# Altium schematic symbol library kmilo17pet-LT_OpAmp_LT1000.SchLib: 2280 symbols (part 11 of 79)
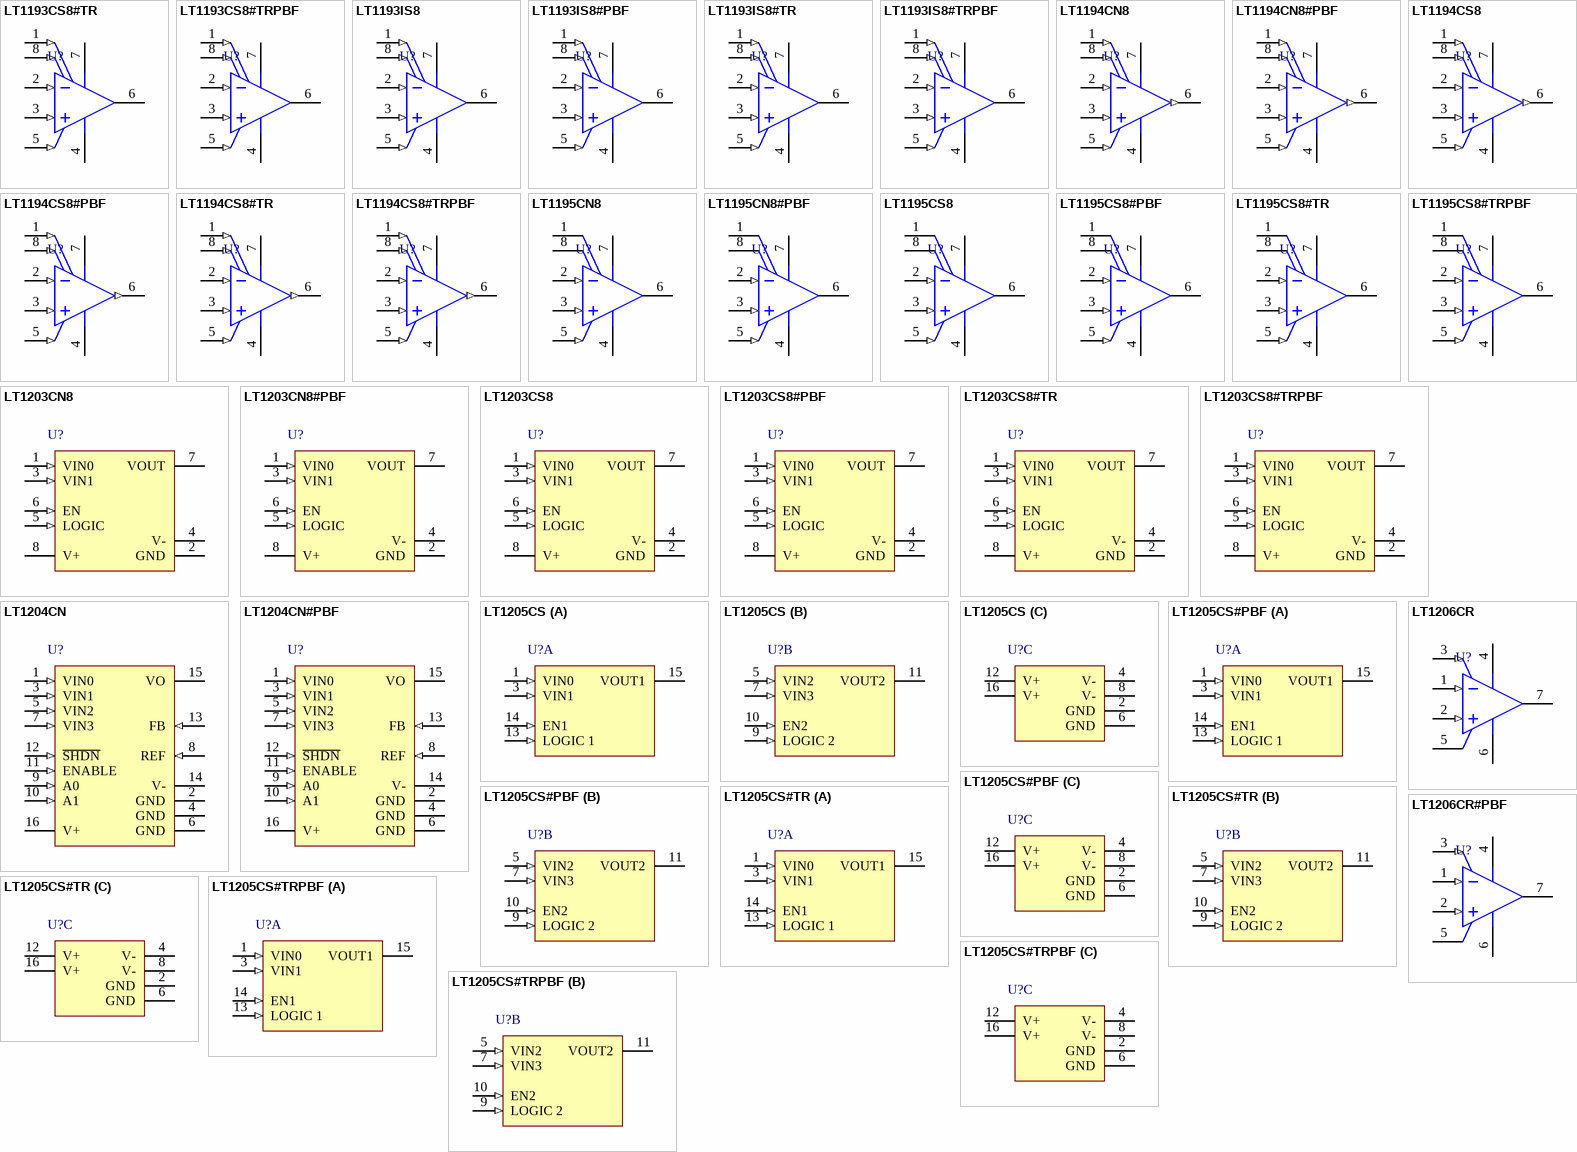
[diagram p115: symbols LT1193CS8#TR to LT1206CR#PBF]

## LT1195CN8
designator U?
Single Channel, Low Power, High Speed Operational Amplifier, 50 MHz Typical GBW, 165 V/us Typical SR, 4 to 18 V, 8-Pin DIP (N8-8), Commercial; Linear Technology Part Number: LT1195; Manufacturer: Linear Technology; PartNumber: LT1195CN8; Channels (#): 1; GBW (MHz) Typical: 50; Is (mA) Typical: 12; SR (V/us) Typical: 165; Vos (mV) Typical: 3; Vs Max (V): 18; Vs Min (V): 4; DatasheetVersion: Rev. A; PackageVersion: Rev I; PackageReference: LT-N8-8; PackageDescription: 8-Lead PDIP, Body 10.16 x 6.48 mm, Pitch 2.54 mm; Supplier 1: Digi-Key; Supplier Part Number 1: LT1195CN8-ND; Type: VFB; Mounting Technology: Surface Mount; ComponentLink1Description: Manufacturer URL; ComponentLink1URL: http://www.linear.com/; ComponentLink2Description: Datasheet; ComponentLink2URL: http://cds.linear.com/docs/en/datasheet/1195fa.pdf; ComponentLink3Description: Package Specification; ComponentLink3URL: http://cds.linear.com/docs/en/packaging/05081510_I_N8.pdf
footprint LT-N8-8 (DIP, 8-Leads, Body 10.16x6.48mm, Pitch 2.54mm)
pins: 1 BAL, 2 -IN (in), 3 +IN (in), 4 V- (power), 5 S/D (in), 6 OUT (hiz), 7 V+ (power), 8 BAL

## LT1195CN8#PBF
designator U?
Single Channel, Low Power, High Speed Operational Amplifier, 50 MHz Typical GBW, 165 V/us Typical SR, 4 to 18 V, 8-Pin DIP (N8-8), Commercial, Pb-Free; Linear Technology Part Number: LT1195; Manufacturer: Linear Technology; PartNumber: LT1195CN8#PBF; Channels (#): 1; GBW (MHz) Typical: 50; Is (mA) Typical: 12; SR (V/us) Typical: 165; Vos (mV) Typical: 3; Vs Max (V): 18; Vs Min (V): 4; DatasheetVersion: Rev. A; PackageVersion: Rev I; PackageReference: LT-N8-8; PackageDescription: 8-Lead PDIP, Body 10.16 x 6.48 mm, Pitch 2.54 mm; Supplier 1: Digi-Key; Supplier Part Number 1: LT1195CN8#PBF-ND; RoHS: Pb-Free; Type: VFB; Mounting Technology: Through Hole; ComponentLink1Description: Manufacturer URL; ComponentLink1URL: http://www.linear.com/; ComponentLink2Description: Datasheet; ComponentLink2URL: http://cds.linear.com/docs/en/datasheet/1195fa.pdf; ComponentLink3Description: Package Specification; ComponentLink3URL: http://cds.linear.com/docs/en/packaging/05081510_I_N8.pdf
footprint LT-N8-8 (DIP, 8-Leads, Body 10.16x6.48mm, Pitch 2.54mm)
pins: 1 BAL, 2 -IN (in), 3 +IN (in), 4 V- (power), 5 S/D (in), 6 OUT (hiz), 7 V+ (power), 8 BAL

## LT1195CS8
designator U?
Single Channel, Low Power, High Speed Operational Amplifier, 50 MHz Typical GBW, 165 V/us Typical SR, 4 to 18 V, 8-Pin SOIC (S8-8), Commercial; Linear Technology Part Number: LT1195; Manufacturer: Linear Technology; PartNumber: LT1195CS8; Channels (#): 1; GBW (MHz) Typical: 50; Is (mA) Typical: 12; SR (V/us) Typical: 165; Vos (mV) Typical: 3; Vs Max (V): 18; Vs Min (V): 4; DatasheetVersion: Rev. A; PackageVersion: Rev G; PackageReference: LT-S8-8; PackageDescription: 8-Pin Plastic Small Outline, Body 4.9 x 3.9 mm, Pitch 1.27 mm; Supplier 1: Digi-Key; Supplier Part Number 1: LT1195CS8-ND; Type: VFB; Mounting Technology: Surface Mount; ComponentLink1Description: Manufacturer URL; ComponentLink1URL: http://www.linear.com/; ComponentLink2Description: Datasheet; ComponentLink2URL: http://cds.linear.com/docs/en/datasheet/1195fa.pdf; ComponentLink3Description: Package Specification; ComponentLink3URL: http://cds.linear.com/docs/en/packaging/05081610_G_SO8.pdf
footprint LT-S8-8_N (SOIC, 8-Leads, Body 4.9x3.9mm, Pitch 1.27mm, IPC Medium Density)
footprint LT-S8-8_L (SOIC, 8-Leads, Body 4.9x3.9mm, Pitch 1.27mm, IPC High Density)
footprint LT-S8-8_M (SOIC, 8-Leads, Body 4.9x3.9mm, Pitch 1.27mm, IPC Low Density)
pins: 1 BAL, 2 -IN (in), 3 +IN (in), 4 V- (power), 5 S/D (in), 6 OUT (hiz), 7 V+ (power), 8 BAL

## LT1195CS8#PBF
designator U?
Single Channel, Low Power, High Speed Operational Amplifier, 50 MHz Typical GBW, 165 V/us Typical SR, 4 to 18 V, 8-Pin SOIC (S8-8), Commercial, Pb-Free; Linear Technology Part Number: LT1195; Manufacturer: Linear Technology; PartNumber: LT1195CS8#PBF; Channels (#): 1; GBW (MHz) Typical: 50; Is (mA) Typical: 12; SR (V/us) Typical: 165; Vos (mV) Typical: 3; Vs Max (V): 18; Vs Min (V): 4; DatasheetVersion: Rev. A; PackageVersion: Rev G; PackageReference: LT-S8-8; PackageDescription: 8-Pin Plastic Small Outline, Body 4.9 x 3.9 mm, Pitch 1.27 mm; Supplier 1: Digi-Key; Supplier Part Number 1: LT1195CS8#PBF-ND; Supplier 2: Farnell; Supplier Part Number 2: 1330598; Supplier 3: Newark; Supplier Part Number 3: 57M2648; RoHS: Pb-Free; Type: VFB; Mounting Technology: Surface Mount; ComponentLink1Description: Manufacturer URL; ComponentLink1URL: http://www.linear.com/; ComponentLink2Description: Datasheet; ComponentLink2URL: http://cds.linear.com/docs/en/datasheet/1195fa.pdf; ComponentLink3Description: Package Specification; ComponentLink3URL: http://cds.linear.com/docs/en/packaging/05081610_G_SO8.pdf
footprint LT-S8-8_N (SOIC, 8-Leads, Body 4.9x3.9mm, Pitch 1.27mm, IPC Medium Density)
footprint LT-S8-8_L (SOIC, 8-Leads, Body 4.9x3.9mm, Pitch 1.27mm, IPC High Density)
footprint LT-S8-8_M (SOIC, 8-Leads, Body 4.9x3.9mm, Pitch 1.27mm, IPC Low Density)
pins: 1 BAL, 2 -IN (in), 3 +IN (in), 4 V- (power), 5 S/D (in), 6 OUT (hiz), 7 V+ (power), 8 BAL

## LT1195CS8#TR
designator U?
Single Channel, Low Power, High Speed Operational Amplifier, 50 MHz Typical GBW, 165 V/us Typical SR, 4 to 18 V, 8-Pin SOIC (S8-8), Commercial, Reel; Linear Technology Part Number: LT1195; Manufacturer: Linear Technology; PartNumber: LT1195CS8#TR; Channels (#): 1; GBW (MHz) Typical: 50; Is (mA) Typical: 12; SR (V/us) Typical: 165; Vos (mV) Typical: 3; Vs Max (V): 18; Vs Min (V): 4; DatasheetVersion: Rev. A; PackageVersion: Rev G; PackageReference: LT-S8-8; PackageDescription: 8-Pin Plastic Small Outline, Body 4.9 x 3.9 mm, Pitch 1.27 mm; Supplier 1: Digi-Key; Supplier Part Number 1: LT1195CS8#TR-ND; Packing: Reel; Type: VFB; Mounting Technology: Surface Mount; ComponentLink1Description: Manufacturer URL; ComponentLink1URL: http://www.linear.com/; ComponentLink2Description: Datasheet; ComponentLink2URL: http://cds.linear.com/docs/en/datasheet/1195fa.pdf; ComponentLink3Description: Package Specification; ComponentLink3URL: http://cds.linear.com/docs/en/packaging/05081610_G_SO8.pdf
footprint LT-S8-8_N (SOIC, 8-Leads, Body 4.9x3.9mm, Pitch 1.27mm, IPC Medium Density)
footprint LT-S8-8_L (SOIC, 8-Leads, Body 4.9x3.9mm, Pitch 1.27mm, IPC High Density)
footprint LT-S8-8_M (SOIC, 8-Leads, Body 4.9x3.9mm, Pitch 1.27mm, IPC Low Density)
pins: 1 BAL, 2 -IN (in), 3 +IN (in), 4 V- (power), 5 S/D (in), 6 OUT (hiz), 7 V+ (power), 8 BAL

## LT1195CS8#TRPBF
designator U?
Single Channel, Low Power, High Speed Operational Amplifier, 50 MHz Typical GBW, 165 V/us Typical SR, 4 to 18 V, 8-Pin SOIC (S8-8), Commercial, Pb-Free, Reel; Linear Technology Part Number: LT1195; Manufacturer: Linear Technology; PartNumber: LT1195CS8#TRPBF; Channels (#): 1; GBW (MHz) Typical: 50; Is (mA) Typical: 12; SR (V/us) Typical: 165; Vos (mV) Typical: 3; Vs Max (V): 18; Vs Min (V): 4; DatasheetVersion: Rev. A; PackageVersion: Rev G; PackageReference: LT-S8-8; PackageDescription: 8-Pin Plastic Small Outline, Body 4.9 x 3.9 mm, Pitch 1.27 mm; Supplier 1: Digi-Key; Supplier Part Number 1: LT1195CS8#TRPBF-ND; Supplier 2: Newark; Supplier Part Number 2: 57M2650; Packing: Reel; RoHS: Pb-Free; Type: VFB; Mounting Technology: Surface Mount; ComponentLink1Description: Manufacturer URL; ComponentLink1URL: http://www.linear.com/; ComponentLink2Description: Datasheet; ComponentLink2URL: http://cds.linear.com/docs/en/datasheet/1195fa.pdf; ComponentLink3Description: Package Specification; ComponentLink3URL: http://cds.linear.com/docs/en/packaging/05081610_G_SO8.pdf
footprint LT-S8-8_N (SOIC, 8-Leads, Body 4.9x3.9mm, Pitch 1.27mm, IPC Medium Density)
footprint LT-S8-8_L (SOIC, 8-Leads, Body 4.9x3.9mm, Pitch 1.27mm, IPC High Density)
footprint LT-S8-8_M (SOIC, 8-Leads, Body 4.9x3.9mm, Pitch 1.27mm, IPC Low Density)
pins: 1 BAL, 2 -IN (in), 3 +IN (in), 4 V- (power), 5 S/D (in), 6 OUT (hiz), 7 V+ (power), 8 BAL

## LT1203CN8
designator U?
Single Channel, Buffered 2:1 MUX, 25ns Switch Time, 150 MHz Typical GBW, 300 V/us Typical SR, 9 to 36 V, 8-Pin DIP (N8-8), Commercial; Linear Technology Part Number: LT1203; Manufacturer: Linear Technology; PartNumber: LT1203CN8; Channels (#): 1; GBW (MHz) Typical: 150; Is (mA) Typical: 10; SR (V/us) Typical: 300; Vs Max (V): 36; Vs Min (V): 9; PackageVersion: Rev I; PackageReference: LT-N8-8; PackageDescription: 8-Lead PDIP, Body 10.16 x 6.48 mm, Pitch 2.54 mm; Type: VIDEO; Vos (mV) Typical: 10; Mounting Technology: Surface Mount; ComponentLink1Description: Manufacturer URL; ComponentLink1URL: http://www.linear.com/; ComponentLink2Description: Datasheet; ComponentLink2URL: http://cds.linear.com/docs/en/datasheet/lt1203.pdf; ComponentLink3Description: Package Specification; ComponentLink3URL: http://cds.linear.com/docs/en/packaging/05081510_I_N8.pdf
footprint LT-N8-8 (DIP, 8-Leads, Body 10.16x6.48mm, Pitch 2.54mm)
pins: 1 VIN0 (in), 2 GND (power), 3 VIN1 (in), 4 V- (power), 5 LOGIC (in), 6 EN (in), 7 VOUT (hiz), 8 V+ (power)

## LT1203CN8#PBF
designator U?
Single Channel, Buffered 2:1 MUX, 25ns Switch Time, 150 MHz Typical GBW, 300 V/us Typical SR, 9 to 36 V, 8-Pin DIP (N8-8), Commercial, Pb-Free; Linear Technology Part Number: LT1203; Manufacturer: Linear Technology; PartNumber: LT1203CN8#PBF; Channels (#): 1; GBW (MHz) Typical: 150; Is (mA) Typical: 10; SR (V/us) Typical: 300; Vs Max (V): 36; Vs Min (V): 9; PackageVersion: Rev I; PackageReference: LT-N8-8; PackageDescription: 8-Lead PDIP, Body 10.16 x 6.48 mm, Pitch 2.54 mm; Supplier 1: Digi-Key; Supplier Part Number 1: LT1203CN8#PBF-ND; RoHS: Pb-Free; Type: VIDEO; Vos (mV) Typical: 10; Mounting Technology: Through Hole; ComponentLink1Description: Manufacturer URL; ComponentLink1URL: http://www.linear.com/; ComponentLink2Description: Datasheet; ComponentLink2URL: http://cds.linear.com/docs/en/datasheet/lt1203.pdf; ComponentLink3Description: Package Specification; ComponentLink3URL: http://cds.linear.com/docs/en/packaging/05081510_I_N8.pdf
footprint LT-N8-8 (DIP, 8-Leads, Body 10.16x6.48mm, Pitch 2.54mm)
pins: 1 VIN0 (in), 2 GND (power), 3 VIN1 (in), 4 V- (power), 5 LOGIC (in), 6 EN (in), 7 VOUT (hiz), 8 V+ (power)

## LT1203CS8
designator U?
Single Channel, Buffered 2:1 MUX, 25ns Switch Time, 150 MHz Typical GBW, 300 V/us Typical SR, 9 to 36 V, 8-Pin SOIC (S8-8), Commercial; Linear Technology Part Number: LT1203; Manufacturer: Linear Technology; PartNumber: LT1203CS8; Channels (#): 1; GBW (MHz) Typical: 150; Is (mA) Typical: 10; SR (V/us) Typical: 300; Vs Max (V): 36; Vs Min (V): 9; PackageVersion: Rev G; PackageReference: LT-S8-8; PackageDescription: 8-Pin Plastic Small Outline, Body 4.9 x 3.9 mm, Pitch 1.27 mm; Supplier 1: Newark; Supplier Part Number 1: 57M2653; Type: VIDEO; Vos (mV) Typical: 10; Mounting Technology: Surface Mount; ComponentLink1Description: Manufacturer URL; ComponentLink1URL: http://www.linear.com/; ComponentLink2Description: Datasheet; ComponentLink2URL: http://cds.linear.com/docs/en/datasheet/lt1203.pdf; ComponentLink3Description: Package Specification; ComponentLink3URL: http://cds.linear.com/docs/en/packaging/05081610_G_SO8.pdf
footprint LT-S8-8_N (SOIC, 8-Leads, Body 4.9x3.9mm, Pitch 1.27mm, IPC Medium Density)
footprint LT-S8-8_L (SOIC, 8-Leads, Body 4.9x3.9mm, Pitch 1.27mm, IPC High Density)
footprint LT-S8-8_M (SOIC, 8-Leads, Body 4.9x3.9mm, Pitch 1.27mm, IPC Low Density)
pins: 1 VIN0 (in), 2 GND (power), 3 VIN1 (in), 4 V- (power), 5 LOGIC (in), 6 EN (in), 7 VOUT (hiz), 8 V+ (power)

## LT1203CS8#PBF
designator U?
Single Channel, Buffered 2:1 MUX, 25ns Switch Time, 150 MHz Typical GBW, 300 V/us Typical SR, 9 to 36 V, 8-Pin SOIC (S8-8), Commercial, Pb-Free; Linear Technology Part Number: LT1203; Manufacturer: Linear Technology; PartNumber: LT1203CS8#PBF; Channels (#): 1; GBW (MHz) Typical: 150; Is (mA) Typical: 10; SR (V/us) Typical: 300; Vs Max (V): 36; Vs Min (V): 9; PackageVersion: Rev G; PackageReference: LT-S8-8; PackageDescription: 8-Pin Plastic Small Outline, Body 4.9 x 3.9 mm, Pitch 1.27 mm; Supplier 1: Digi-Key; Supplier Part Number 1: LT1203CS8#PBF-ND; Supplier 2: Newark; Supplier Part Number 2: 57M2654; RoHS: Pb-Free; Type: VIDEO; Vos (mV) Typical: 10; Mounting Technology: Surface Mount; ComponentLink1Description: Manufacturer URL; ComponentLink1URL: http://www.linear.com/; ComponentLink2Description: Datasheet; ComponentLink2URL: http://cds.linear.com/docs/en/datasheet/lt1203.pdf; ComponentLink3Description: Package Specification; ComponentLink3URL: http://cds.linear.com/docs/en/packaging/05081610_G_SO8.pdf
footprint LT-S8-8_N (SOIC, 8-Leads, Body 4.9x3.9mm, Pitch 1.27mm, IPC Medium Density)
footprint LT-S8-8_L (SOIC, 8-Leads, Body 4.9x3.9mm, Pitch 1.27mm, IPC High Density)
footprint LT-S8-8_M (SOIC, 8-Leads, Body 4.9x3.9mm, Pitch 1.27mm, IPC Low Density)
pins: 1 VIN0 (in), 2 GND (power), 3 VIN1 (in), 4 V- (power), 5 LOGIC (in), 6 EN (in), 7 VOUT (hiz), 8 V+ (power)

## LT1203CS8#TR
designator U?
Single Channel, Buffered 2:1 MUX, 25ns Switch Time, 150 MHz Typical GBW, 300 V/us Typical SR, 9 to 36 V, 8-Pin SOIC (S8-8), Commercial, Reel; Linear Technology Part Number: LT1203; Manufacturer: Linear Technology; PartNumber: LT1203CS8#TR; Channels (#): 1; GBW (MHz) Typical: 150; Is (mA) Typical: 10; SR (V/us) Typical: 300; Vs Max (V): 36; Vs Min (V): 9; PackageVersion: Rev G; PackageReference: LT-S8-8; PackageDescription: 8-Pin Plastic Small Outline, Body 4.9 x 3.9 mm, Pitch 1.27 mm; Supplier 1: Digi-Key; Supplier Part Number 1: LT1203CS8#TR-ND; Packing: Reel; Type: VIDEO; Vos (mV) Typical: 10; Mounting Technology: Surface Mount; ComponentLink1Description: Manufacturer URL; ComponentLink1URL: http://www.linear.com/; ComponentLink2Description: Datasheet; ComponentLink2URL: http://cds.linear.com/docs/en/datasheet/lt1203.pdf; ComponentLink3Description: Package Specification; ComponentLink3URL: http://cds.linear.com/docs/en/packaging/05081610_G_SO8.pdf
footprint LT-S8-8_N (SOIC, 8-Leads, Body 4.9x3.9mm, Pitch 1.27mm, IPC Medium Density)
footprint LT-S8-8_L (SOIC, 8-Leads, Body 4.9x3.9mm, Pitch 1.27mm, IPC High Density)
footprint LT-S8-8_M (SOIC, 8-Leads, Body 4.9x3.9mm, Pitch 1.27mm, IPC Low Density)
pins: 1 VIN0 (in), 2 GND (power), 3 VIN1 (in), 4 V- (power), 5 LOGIC (in), 6 EN (in), 7 VOUT (hiz), 8 V+ (power)

## LT1203CS8#TRPBF
designator U?
Single Channel, Buffered 2:1 MUX, 25ns Switch Time, 150 MHz Typical GBW, 300 V/us Typical SR, 9 to 36 V, 8-Pin SOIC (S8-8), Commercial, Pb-Free, Reel; Linear Technology Part Number: LT1203; Manufacturer: Linear Technology; PartNumber: LT1203CS8#TRPBF; Channels (#): 1; GBW (MHz) Typical: 150; Is (mA) Typical: 10; SR (V/us) Typical: 300; Vs Max (V): 36; Vs Min (V): 9; PackageVersion: Rev G; PackageReference: LT-S8-8; PackageDescription: 8-Pin Plastic Small Outline, Body 4.9 x 3.9 mm, Pitch 1.27 mm; Supplier 1: Digi-Key; Supplier Part Number 1: LT1203CS8#TRPBF-ND; Supplier 2: Newark; Supplier Part Number 2: 57M2656; Packing: Reel; RoHS: Pb-Free; Type: VIDEO; Vos (mV) Typical: 10; Mounting Technology: Surface Mount; ComponentLink1Description: Manufacturer URL; ComponentLink1URL: http://www.linear.com/; ComponentLink2Description: Datasheet; ComponentLink2URL: http://cds.linear.com/docs/en/datasheet/lt1203.pdf; ComponentLink3Description: Package Specification; ComponentLink3URL: http://cds.linear.com/docs/en/packaging/05081610_G_SO8.pdf
footprint LT-S8-8_N (SOIC, 8-Leads, Body 4.9x3.9mm, Pitch 1.27mm, IPC Medium Density)
footprint LT-S8-8_L (SOIC, 8-Leads, Body 4.9x3.9mm, Pitch 1.27mm, IPC High Density)
footprint LT-S8-8_M (SOIC, 8-Leads, Body 4.9x3.9mm, Pitch 1.27mm, IPC Low Density)
pins: 1 VIN0 (in), 2 GND (power), 3 VIN1 (in), 4 V- (power), 5 LOGIC (in), 6 EN (in), 7 VOUT (hiz), 8 V+ (power)

## LT1204CN
designator U?
Single Channel, 4:1 MUX with Current Feedback Amplifier, 95 MHz Typical GBW, 1000 V/us Typical SR, 9 to 36 V, 16-Pin DIP (N-16), Commercial; Linear Technology Part Number: LT1204; Manufacturer: Linear Technology; PartNumber: LT1204CN; Channels (#): 1; GBW (MHz) Typical: 95; Is (mA) Typical: 19; SR (V/us) Typical: 1000; Vos (mV) Typical: 5; Vs Max (V): 36; Vs Min (V): 9; DatasheetVersion: Rev. A; PackageVersion: Rev I; PackageReference: LT-N-16; PackageDescription: 16-Lead PDIP, Body 19.56 x 6.48 mm, Pitch 2.54 mm; Supplier 1: Digi-Key; Supplier Part Number 1: LT1204CN-ND; Type: VIDEO; Mounting Technology: Surface Mount; ComponentLink1Description: Manufacturer URL; ComponentLink1URL: http://www.linear.com/; ComponentLink2Description: Datasheet; ComponentLink2URL: http://cds.linear.com/docs/en/datasheet/1204fas.pdf; ComponentLink3Description: Package Specification; ComponentLink3URL: http://cds.linear.com/docs/en/packaging/05081510_I_N16.pdf
footprint LT-N-16 (DIP, 16-Leads, Body 19.56x6.48mm, Pitch 2.54mm)
pins: 1 VIN0 (in), 2 GND (power), 3 VIN1 (in), 4 GND (power), 5 VIN2 (in), 6 GND (power), 7 VIN3 (in), 8 REF (in), 9 A0 (in), 10 A1 (in), 11 ENABLE (in), 12 ~{SHDN} (in), 13 FB (in), 14 V- (power), 15 VO (hiz), 16 V+ (power)

## LT1204CN#PBF
designator U?
Single Channel, 4:1 MUX with Current Feedback Amplifier, 95 MHz Typical GBW, 1000 V/us Typical SR, 9 to 36 V, 16-Pin DIP (N-16), Commercial, Pb-Free; Linear Technology Part Number: LT1204; Manufacturer: Linear Technology; PartNumber: LT1204CN#PBF; Channels (#): 1; GBW (MHz) Typical: 95; Is (mA) Typical: 19; SR (V/us) Typical: 1000; Vos (mV) Typical: 5; Vs Max (V): 36; Vs Min (V): 9; DatasheetVersion: Rev. A; PackageVersion: Rev I; PackageReference: LT-N-16; PackageDescription: 16-Lead PDIP, Body 19.56 x 6.48 mm, Pitch 2.54 mm; Supplier 1: Digi-Key; Supplier Part Number 1: LT1204CN#PBF-ND; RoHS: Pb-Free; Type: VIDEO; Mounting Technology: Through Hole; ComponentLink1Description: Manufacturer URL; ComponentLink1URL: http://www.linear.com/; ComponentLink2Description: Datasheet; ComponentLink2URL: http://cds.linear.com/docs/en/datasheet/1204fas.pdf; ComponentLink3Description: Package Specification; ComponentLink3URL: http://cds.linear.com/docs/en/packaging/05081510_I_N16.pdf
footprint LT-N-16 (DIP, 16-Leads, Body 19.56x6.48mm, Pitch 2.54mm)
pins: 1 VIN0 (in), 2 GND (power), 3 VIN1 (in), 4 GND (power), 5 VIN2 (in), 6 GND (power), 7 VIN3 (in), 8 REF (in), 9 A0 (in), 10 A1 (in), 11 ENABLE (in), 12 ~{SHDN} (in), 13 FB (in), 14 V- (power), 15 VO (hiz), 16 V+ (power)

## LT1205CS
designator U?
Dual Channel, Buffered 2:1 MUX, 25ns Switch Time, 150 MHz Typical GBW, 300 V/us Typical SR, 9 to 36 V, 16-Pin SOP (S-16), Commercial; Linear Technology Part Number: LT1205; Manufacturer: Linear Technology; PartNumber: LT1205CS; Channels (#): 2; GBW (MHz) Typical: 150; Is (mA) Typical: 10; SR (V/us) Typical: 300; Vs Max (V): 36; Vs Min (V): 9; PackageVersion: Rev G; PackageReference: LT-S-16; PackageDescription: 16-Lead Plastic Small Outline, Body 9.9 x 3.9 mm, Pitch 1.27 mm; Type: VIDEO; Vos (mV) Typical: 10; Mounting Technology: Surface Mount; ComponentLink1Description: Manufacturer URL; ComponentLink1URL: http://www.linear.com/; ComponentLink2Description: Datasheet; ComponentLink2URL: http://cds.linear.com/docs/en/datasheet/lt1203.pdf; ComponentLink3Description: Package Specification; ComponentLink3URL: http://cds.linear.com/docs/en/packaging/S16%2005-08-1610%20Rev%20G.pdf
footprint LT-S-16_N (SOP, 16-Leads, Body 9.9x3.9mm, Pitch 1.27mm, IPC Medium Density)
footprint LT-S-16_L (SOP, 16-Leads, Body 9.9x3.9mm, Pitch 1.27mm, IPC High Density)
footprint LT-S-16_M (SOP, 16-Leads, Body 9.9x3.9mm, Pitch 1.27mm, IPC Low Density)
part A pins: 1 VIN0 (in), 3 VIN1 (in), 13 LOGIC 1 (in), 14 EN1 (in), 15 VOUT1 (hiz)
part B pins: 5 VIN2 (in), 7 VIN3 (in), 9 LOGIC 2 (in), 10 EN2 (in), 11 VOUT2 (hiz)
part C pins: 2 GND (power), 4 V- (power), 6 GND (power), 8 V- (power), 12 V+ (power), 16 V+ (power)

## LT1205CS#PBF
designator U?
Dual Channel, Buffered 2:1 MUX, 25ns Switch Time, 150 MHz Typical GBW, 300 V/us Typical SR, 9 to 36 V, 16-Pin SOP (S-16), Commercial, Pb-Free; Linear Technology Part Number: LT1205; Manufacturer: Linear Technology; PartNumber: LT1205CS#PBF; Channels (#): 2; GBW (MHz) Typical: 150; Is (mA) Typical: 10; SR (V/us) Typical: 300; Vs Max (V): 36; Vs Min (V): 9; PackageVersion: Rev G; PackageReference: LT-S-16; PackageDescription: 16-Lead Plastic Small Outline, Body 9.9 x 3.9 mm, Pitch 1.27 mm; Supplier 1: Digi-Key; Supplier Part Number 1: LT1205CS#PBF-ND; Supplier 2: Farnell; Supplier Part Number 2: 1330601; Supplier 3: Newark; Supplier Part Number 3: 57M2664; RoHS: Pb-Free; Type: VIDEO; Vos (mV) Typical: 10; Mounting Technology: Surface Mount; ComponentLink1Description: Manufacturer URL; ComponentLink1URL: http://www.linear.com/; ComponentLink2Description: Datasheet; ComponentLink2URL: http://cds.linear.com/docs/en/datasheet/lt1203.pdf; ComponentLink3Description: Package Specification; ComponentLink3URL: http://cds.linear.com/docs/en/packaging/S16%2005-08-1610%20Rev%20G.pdf
footprint LT-S-16_N (SOP, 16-Leads, Body 9.9x3.9mm, Pitch 1.27mm, IPC Medium Density)
footprint LT-S-16_L (SOP, 16-Leads, Body 9.9x3.9mm, Pitch 1.27mm, IPC High Density)
footprint LT-S-16_M (SOP, 16-Leads, Body 9.9x3.9mm, Pitch 1.27mm, IPC Low Density)
part A pins: 1 VIN0 (in), 3 VIN1 (in), 13 LOGIC 1 (in), 14 EN1 (in), 15 VOUT1 (hiz)
part B pins: 5 VIN2 (in), 7 VIN3 (in), 9 LOGIC 2 (in), 10 EN2 (in), 11 VOUT2 (hiz)
part C pins: 2 GND (power), 4 V- (power), 6 GND (power), 8 V- (power), 12 V+ (power), 16 V+ (power)

## LT1205CS#TR
designator U?
Dual Channel, Buffered 2:1 MUX, 25ns Switch Time, 150 MHz Typical GBW, 300 V/us Typical SR, 9 to 36 V, 16-Pin SOP (S-16), Commercial, Reel; Linear Technology Part Number: LT1205; Manufacturer: Linear Technology; PartNumber: LT1205CS#TR; Channels (#): 2; GBW (MHz) Typical: 150; Is (mA) Typical: 10; SR (V/us) Typical: 300; Vs Max (V): 36; Vs Min (V): 9; PackageVersion: Rev G; PackageReference: LT-S-16; PackageDescription: 16-Lead Plastic Small Outline, Body 9.9 x 3.9 mm, Pitch 1.27 mm; Supplier 1: Digi-Key; Supplier Part Number 1: LT1205CS#TR-ND; Packing: Reel; Type: VIDEO; Vos (mV) Typical: 10; Mounting Technology: Surface Mount; ComponentLink1Description: Manufacturer URL; ComponentLink1URL: http://www.linear.com/; ComponentLink2Description: Datasheet; ComponentLink2URL: http://cds.linear.com/docs/en/datasheet/lt1203.pdf; ComponentLink3Description: Package Specification; ComponentLink3URL: http://cds.linear.com/docs/en/packaging/S16%2005-08-1610%20Rev%20G.pdf
footprint LT-S-16_N (SOP, 16-Leads, Body 9.9x3.9mm, Pitch 1.27mm, IPC Medium Density)
footprint LT-S-16_L (SOP, 16-Leads, Body 9.9x3.9mm, Pitch 1.27mm, IPC High Density)
footprint LT-S-16_M (SOP, 16-Leads, Body 9.9x3.9mm, Pitch 1.27mm, IPC Low Density)
part A pins: 1 VIN0 (in), 3 VIN1 (in), 13 LOGIC 1 (in), 14 EN1 (in), 15 VOUT1 (hiz)
part B pins: 5 VIN2 (in), 7 VIN3 (in), 9 LOGIC 2 (in), 10 EN2 (in), 11 VOUT2 (hiz)
part C pins: 2 GND (power), 4 V- (power), 6 GND (power), 8 V- (power), 12 V+ (power), 16 V+ (power)

## LT1205CS#TRPBF
designator U?
Dual Channel, Buffered 2:1 MUX, 25ns Switch Time, 150 MHz Typical GBW, 300 V/us Typical SR, 9 to 36 V, 16-Pin SOP (S-16), Commercial, Pb-Free, Reel; Linear Technology Part Number: LT1205; Manufacturer: Linear Technology; PartNumber: LT1205CS#TRPBF; Channels (#): 2; GBW (MHz) Typical: 150; Is (mA) Typical: 10; SR (V/us) Typical: 300; Vs Max (V): 36; Vs Min (V): 9; PackageVersion: Rev G; PackageReference: LT-S-16; PackageDescription: 16-Lead Plastic Small Outline, Body 9.9 x 3.9 mm, Pitch 1.27 mm; Supplier 1: Digi-Key; Supplier Part Number 1: LT1205CS#TRPBF-ND; Packing: Reel; RoHS: Pb-Free; Type: VIDEO; Vos (mV) Typical: 10; Mounting Technology: Surface Mount; ComponentLink1Description: Manufacturer URL; ComponentLink1URL: http://www.linear.com/; ComponentLink2Description: Datasheet; ComponentLink2URL: http://cds.linear.com/docs/en/datasheet/lt1203.pdf; ComponentLink3Description: Package Specification; ComponentLink3URL: http://cds.linear.com/docs/en/packaging/S16%2005-08-1610%20Rev%20G.pdf
footprint LT-S-16_N (SOP, 16-Leads, Body 9.9x3.9mm, Pitch 1.27mm, IPC Medium Density)
footprint LT-S-16_L (SOP, 16-Leads, Body 9.9x3.9mm, Pitch 1.27mm, IPC High Density)
footprint LT-S-16_M (SOP, 16-Leads, Body 9.9x3.9mm, Pitch 1.27mm, IPC Low Density)
part A pins: 1 VIN0 (in), 3 VIN1 (in), 13 LOGIC 1 (in), 14 EN1 (in), 15 VOUT1 (hiz)
part B pins: 5 VIN2 (in), 7 VIN3 (in), 9 LOGIC 2 (in), 10 EN2 (in), 11 VOUT2 (hiz)
part C pins: 2 GND (power), 4 V- (power), 6 GND (power), 8 V- (power), 12 V+ (power), 16 V+ (power)

## LT1206CR
designator U?
Single Channel, Adjustable Supply Current Operational Amplifier, 66 MHz Typical GBW, 900 V/us Typical SR, 10 to 36 V, 7-Pin DPAK (R-7), Commercial; Linear Technology Part Number: LT1206; Manufacturer: Linear Technology; PartNumber: LT1206CR; Channels (#): 1; GBW (MHz) Typical: 66; Is (mA) Typical: 20; SR (V/us) Typical: 900; Vos (mV) Typical: 3; Vs Max (V): 36; Vs Min (V): 10; DatasheetVersion: Rev. B; PackageVersion: Rev F; PackageReference: LT-R-7; PackageDescription: 7-Lead Plastic DD Pak, Pitch 1.27 mm; Supplier 1: Digi-Key; Supplier Part Number 1: LT1206CR-ND; Supplier 2: Newark; Supplier Part Number 2: 57M2669; Type: CFA; Mounting Technology: Surface Mount; ComponentLink1Description: Manufacturer URL; ComponentLink1URL: http://www.linear.com/; ComponentLink2Description: Datasheet; ComponentLink2URL: http://cds.linear.com/docs/en/datasheet/1206fb.pdf; ComponentLink3Description: Package Specification; ComponentLink3URL: http://cds.linear.com/docs/en/packaging/05081462_F_R.pdf
footprint LT-R-7_N (DPAK, 7-Leads, Body 10.224x8.89mm, Pitch 1.27mm, IPC Medium Density)
footprint LT-R-7_L (DPAK, 7-Leads, Body 10.224x8.89mm, Pitch 1.27mm, IPC High Density)
footprint LT-R-7_M (DPAK, 7-Leads, Body 10.224x8.89mm, Pitch 1.27mm, IPC Low Density)
pins: 1 -IN (in), 2 +IN (in), 3 S/D (in), 4 V+ (power), 5 COMP, 6 V- (power), 7 OUT (hiz)

## LT1206CR#PBF
designator U?
Single Channel, Adjustable Supply Current Operational Amplifier, 66 MHz Typical GBW, 900 V/us Typical SR, 10 to 36 V, 7-Pin DPAK (R-7), Commercial, Pb-Free; Linear Technology Part Number: LT1206; Manufacturer: Linear Technology; PartNumber: LT1206CR#PBF; Channels (#): 1; GBW (MHz) Typical: 66; Is (mA) Typical: 20; SR (V/us) Typical: 900; Vos (mV) Typical: 3; Vs Max (V): 36; Vs Min (V): 10; DatasheetVersion: Rev. B; PackageVersion: Rev F; PackageReference: LT-R-7; PackageDescription: 7-Lead Plastic DD Pak, Pitch 1.27 mm; Supplier 1: Digi-Key; Supplier Part Number 1: LT1206CR#PBF-ND; Supplier 2: Farnell; Supplier Part Number 2: 1330602; Supplier 3: Newark; Supplier Part Number 3: 57M2670; RoHS: Pb-Free; Type: CFA; Mounting Technology: Surface Mount; ComponentLink1Description: Manufacturer URL; ComponentLink1URL: http://www.linear.com/; ComponentLink2Description: Datasheet; ComponentLink2URL: http://cds.linear.com/docs/en/datasheet/1206fb.pdf; ComponentLink3Description: Package Specification; ComponentLink3URL: http://cds.linear.com/docs/en/packaging/05081462_F_R.pdf
footprint LT-R-7_N (DPAK, 7-Leads, Body 10.224x8.89mm, Pitch 1.27mm, IPC Medium Density)
footprint LT-R-7_L (DPAK, 7-Leads, Body 10.224x8.89mm, Pitch 1.27mm, IPC High Density)
footprint LT-R-7_M (DPAK, 7-Leads, Body 10.224x8.89mm, Pitch 1.27mm, IPC Low Density)
pins: 1 -IN (in), 2 +IN (in), 3 S/D (in), 4 V+ (power), 5 COMP, 6 V- (power), 7 OUT (hiz)

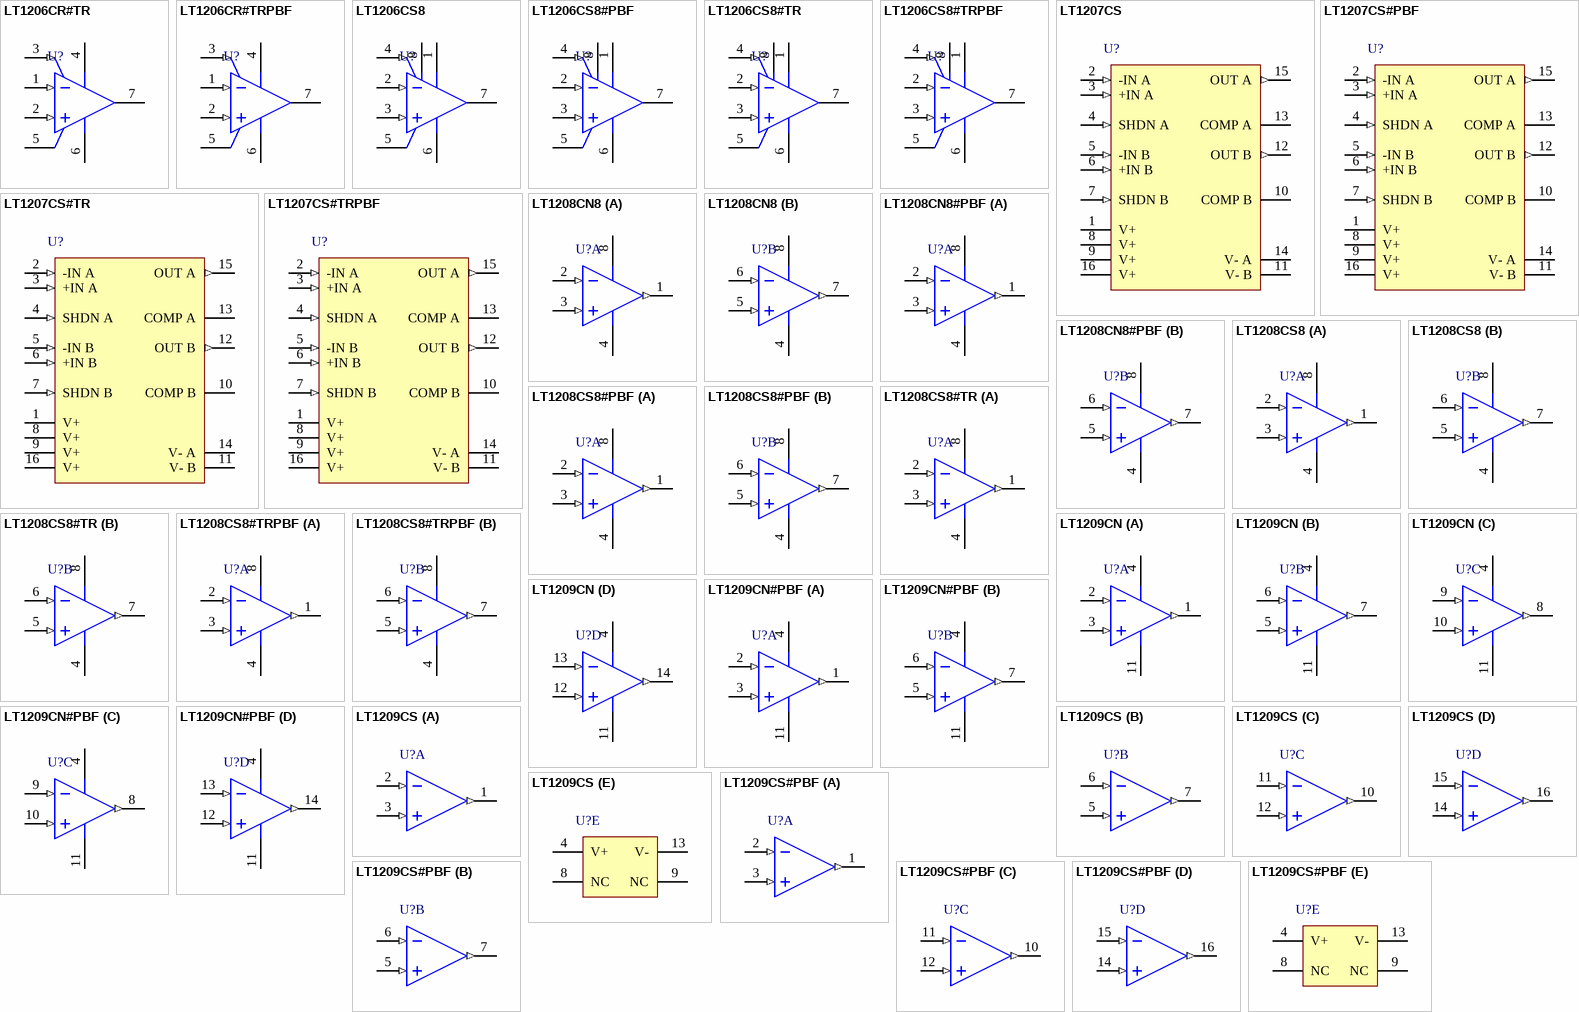
[diagram p14: symbols LT1206CR#TR to LT1209CS#PBF]

## LT1206CR#TR
designator U?
Single Channel, Adjustable Supply Current Operational Amplifier, 66 MHz Typical GBW, 900 V/us Typical SR, 10 to 36 V, 7-Pin DPAK (R-7), Commercial, Reel; Linear Technology Part Number: LT1206; Manufacturer: Linear Technology; PartNumber: LT1206CR#TR; Channels (#): 1; GBW (MHz) Typical: 66; Is (mA) Typical: 20; SR (V/us) Typical: 900; Vos (mV) Typical: 3; Vs Max (V): 36; Vs Min (V): 10; DatasheetVersion: Rev. B; PackageVersion: Rev F; PackageReference: LT-R-7; PackageDescription: 7-Lead Plastic DD Pak, Pitch 1.27 mm; Supplier 1: Digi-Key; Supplier Part Number 1: LT1206CR#TR-ND; Packing: Reel; Type: CFA; Mounting Technology: Surface Mount; ComponentLink1Description: Manufacturer URL; ComponentLink1URL: http://www.linear.com/; ComponentLink2Description: Datasheet; ComponentLink2URL: http://cds.linear.com/docs/en/datasheet/1206fb.pdf; ComponentLink3Description: Package Specification; ComponentLink3URL: http://cds.linear.com/docs/en/packaging/05081462_F_R.pdf
footprint LT-R-7_N (DPAK, 7-Leads, Body 10.224x8.89mm, Pitch 1.27mm, IPC Medium Density)
footprint LT-R-7_L (DPAK, 7-Leads, Body 10.224x8.89mm, Pitch 1.27mm, IPC High Density)
footprint LT-R-7_M (DPAK, 7-Leads, Body 10.224x8.89mm, Pitch 1.27mm, IPC Low Density)
pins: 1 -IN (in), 2 +IN (in), 3 S/D (in), 4 V+ (power), 5 COMP, 6 V- (power), 7 OUT (hiz)

## LT1206CR#TRPBF
designator U?
Single Channel, Adjustable Supply Current Operational Amplifier, 66 MHz Typical GBW, 900 V/us Typical SR, 10 to 36 V, 7-Pin DPAK (R-7), Commercial, Pb-Free, Reel; Linear Technology Part Number: LT1206; Manufacturer: Linear Technology; PartNumber: LT1206CR#TRPBF; Channels (#): 1; GBW (MHz) Typical: 66; Is (mA) Typical: 20; SR (V/us) Typical: 900; Vos (mV) Typical: 3; Vs Max (V): 36; Vs Min (V): 10; DatasheetVersion: Rev. B; PackageVersion: Rev F; PackageReference: LT-R-7; PackageDescription: 7-Lead Plastic DD Pak, Pitch 1.27 mm; Supplier 1: Digi-Key; Supplier Part Number 1: LT1206CR#TRPBF-ND; Supplier 2: Newark; Supplier Part Number 2: 57M2672; Packing: Reel; RoHS: Pb-Free; Type: CFA; Mounting Technology: Surface Mount; ComponentLink1Description: Manufacturer URL; ComponentLink1URL: http://www.linear.com/; ComponentLink2Description: Datasheet; ComponentLink2URL: http://cds.linear.com/docs/en/datasheet/1206fb.pdf; ComponentLink3Description: Package Specification; ComponentLink3URL: http://cds.linear.com/docs/en/packaging/05081462_F_R.pdf
footprint LT-R-7_N (DPAK, 7-Leads, Body 10.224x8.89mm, Pitch 1.27mm, IPC Medium Density)
footprint LT-R-7_L (DPAK, 7-Leads, Body 10.224x8.89mm, Pitch 1.27mm, IPC High Density)
footprint LT-R-7_M (DPAK, 7-Leads, Body 10.224x8.89mm, Pitch 1.27mm, IPC Low Density)
pins: 1 -IN (in), 2 +IN (in), 3 S/D (in), 4 V+ (power), 5 COMP, 6 V- (power), 7 OUT (hiz)

## LT1206CS8
designator U?
Single Channel, Adjustable Supply Current Operational Amplifier, 66 MHz Typical GBW, 900 V/us Typical SR, 10 to 36 V, 8-Pin SOIC (S8-8), Commercial; Linear Technology Part Number: LT1206; Manufacturer: Linear Technology; PartNumber: LT1206CS8; Channels (#): 1; GBW (MHz) Typical: 66; Is (mA) Typical: 20; SR (V/us) Typical: 900; Vos (mV) Typical: 3; Vs Max (V): 36; Vs Min (V): 10; DatasheetVersion: Rev. B; PackageVersion: Rev G; PackageReference: LT-S8-8; PackageDescription: 8-Pin Plastic Small Outline, Body 4.9 x 3.9 mm, Pitch 1.27 mm; Supplier 1: Digi-Key; Supplier Part Number 1: LT1206CS8-ND; Type: CFA; Mounting Technology: Surface Mount; ComponentLink1Description: Manufacturer URL; ComponentLink1URL: http://www.linear.com/; ComponentLink2Description: Datasheet; ComponentLink2URL: http://cds.linear.com/docs/en/datasheet/1206fb.pdf; ComponentLink3Description: Package Specification; ComponentLink3URL: http://cds.linear.com/docs/en/packaging/05081610_G_SO8.pdf
footprint LT-S8-8_N (SOIC, 8-Leads, Body 4.9x3.9mm, Pitch 1.27mm, IPC Medium Density)
footprint LT-S8-8_L (SOIC, 8-Leads, Body 4.9x3.9mm, Pitch 1.27mm, IPC High Density)
footprint LT-S8-8_M (SOIC, 8-Leads, Body 4.9x3.9mm, Pitch 1.27mm, IPC Low Density)
pins: 1 V+ (power), 2 -IN (in), 3 +IN (in), 4 S/D (in), 5 COMP, 6 V- (power), 7 OUT (hiz), 8 V+ (power)

## LT1206CS8#PBF
designator U?
Single Channel, Adjustable Supply Current Operational Amplifier, 66 MHz Typical GBW, 900 V/us Typical SR, 10 to 36 V, 8-Pin SOIC (S8-8), Commercial, Pb-Free; Linear Technology Part Number: LT1206; Manufacturer: Linear Technology; PartNumber: LT1206CS8#PBF; Channels (#): 1; GBW (MHz) Typical: 66; Is (mA) Typical: 20; SR (V/us) Typical: 900; Vos (mV) Typical: 3; Vs Max (V): 36; Vs Min (V): 10; DatasheetVersion: Rev. B; PackageVersion: Rev G; PackageReference: LT-S8-8; PackageDescription: 8-Pin Plastic Small Outline, Body 4.9 x 3.9 mm, Pitch 1.27 mm; Supplier 1: Digi-Key; Supplier Part Number 1: LT1206CS8#PBF-ND; Supplier 2: Farnell; Supplier Part Number 2: 1556446; Supplier 3: Newark; Supplier Part Number 3: 57M2674; RoHS: Pb-Free; Type: CFA; Mounting Technology: Surface Mount; ComponentLink1Description: Manufacturer URL; ComponentLink1URL: http://www.linear.com/; ComponentLink2Description: Datasheet; ComponentLink2URL: http://cds.linear.com/docs/en/datasheet/1206fb.pdf; ComponentLink3Description: Package Specification; ComponentLink3URL: http://cds.linear.com/docs/en/packaging/05081610_G_SO8.pdf
footprint LT-S8-8_N (SOIC, 8-Leads, Body 4.9x3.9mm, Pitch 1.27mm, IPC Medium Density)
footprint LT-S8-8_L (SOIC, 8-Leads, Body 4.9x3.9mm, Pitch 1.27mm, IPC High Density)
footprint LT-S8-8_M (SOIC, 8-Leads, Body 4.9x3.9mm, Pitch 1.27mm, IPC Low Density)
pins: 1 V+ (power), 2 -IN (in), 3 +IN (in), 4 S/D (in), 5 COMP, 6 V- (power), 7 OUT (hiz), 8 V+ (power)

## LT1206CS8#TR
designator U?
Single Channel, Adjustable Supply Current Operational Amplifier, 66 MHz Typical GBW, 900 V/us Typical SR, 10 to 36 V, 8-Pin SOIC (S8-8), Commercial, Reel; Linear Technology Part Number: LT1206; Manufacturer: Linear Technology; PartNumber: LT1206CS8#TR; Channels (#): 1; GBW (MHz) Typical: 66; Is (mA) Typical: 20; SR (V/us) Typical: 900; Vos (mV) Typical: 3; Vs Max (V): 36; Vs Min (V): 10; DatasheetVersion: Rev. B; PackageVersion: Rev G; PackageReference: LT-S8-8; PackageDescription: 8-Pin Plastic Small Outline, Body 4.9 x 3.9 mm, Pitch 1.27 mm; Supplier 1: Digi-Key; Supplier Part Number 1: LT1206CS8#TR-ND; Packing: Reel; Type: CFA; Mounting Technology: Surface Mount; ComponentLink1Description: Manufacturer URL; ComponentLink1URL: http://www.linear.com/; ComponentLink2Description: Datasheet; ComponentLink2URL: http://cds.linear.com/docs/en/datasheet/1206fb.pdf; ComponentLink3Description: Package Specification; ComponentLink3URL: http://cds.linear.com/docs/en/packaging/05081610_G_SO8.pdf
footprint LT-S8-8_N (SOIC, 8-Leads, Body 4.9x3.9mm, Pitch 1.27mm, IPC Medium Density)
footprint LT-S8-8_L (SOIC, 8-Leads, Body 4.9x3.9mm, Pitch 1.27mm, IPC High Density)
footprint LT-S8-8_M (SOIC, 8-Leads, Body 4.9x3.9mm, Pitch 1.27mm, IPC Low Density)
pins: 1 V+ (power), 2 -IN (in), 3 +IN (in), 4 S/D (in), 5 COMP, 6 V- (power), 7 OUT (hiz), 8 V+ (power)

## LT1206CS8#TRPBF
designator U?
Single Channel, Adjustable Supply Current Operational Amplifier, 66 MHz Typical GBW, 900 V/us Typical SR, 10 to 36 V, 8-Pin SOIC (S8-8), Commercial, Pb-Free, Reel; Linear Technology Part Number: LT1206; Manufacturer: Linear Technology; PartNumber: LT1206CS8#TRPBF; Channels (#): 1; GBW (MHz) Typical: 66; Is (mA) Typical: 20; SR (V/us) Typical: 900; Vos (mV) Typical: 3; Vs Max (V): 36; Vs Min (V): 10; DatasheetVersion: Rev. B; PackageVersion: Rev G; PackageReference: LT-S8-8; PackageDescription: 8-Pin Plastic Small Outline, Body 4.9 x 3.9 mm, Pitch 1.27 mm; Supplier 1: Digi-Key; Supplier Part Number 1: LT1206CS8#TRPBF-ND; Supplier 2: Newark; Supplier Part Number 2: 57M2676; Packing: Reel; RoHS: Pb-Free; Type: CFA; Mounting Technology: Surface Mount; ComponentLink1Description: Manufacturer URL; ComponentLink1URL: http://www.linear.com/; ComponentLink2Description: Datasheet; ComponentLink2URL: http://cds.linear.com/docs/en/datasheet/1206fb.pdf; ComponentLink3Description: Package Specification; ComponentLink3URL: http://cds.linear.com/docs/en/packaging/05081610_G_SO8.pdf
footprint LT-S8-8_N (SOIC, 8-Leads, Body 4.9x3.9mm, Pitch 1.27mm, IPC Medium Density)
footprint LT-S8-8_L (SOIC, 8-Leads, Body 4.9x3.9mm, Pitch 1.27mm, IPC High Density)
footprint LT-S8-8_M (SOIC, 8-Leads, Body 4.9x3.9mm, Pitch 1.27mm, IPC Low Density)
pins: 1 V+ (power), 2 -IN (in), 3 +IN (in), 4 S/D (in), 5 COMP, 6 V- (power), 7 OUT (hiz), 8 V+ (power)

## LT1207CS
designator U?
Dual Channel, High Current, Programmable Supply Operational Amplifier, 66 MHz Typical GBW, 900 V/us Typical SR, 10 to 36 V, 16-Pin SOIC (S-16), Commercial; Linear Technology Part Number: LT1207; Manufacturer: Linear Technology; PartNumber: LT1207CS; Channels (#): 2; GBW (MHz) Typical: 66; Is (mA) Typical: 20; SR (V/us) Typical: 900; Vos (mV) Typical: 3; Vs Max (V): 36; Vs Min (V): 10; PackageVersion: Rev G; PackageReference: LT-S-16; PackageDescription: 16-Lead Plastic Small Outline, Body 9.9 x 3.9 mm, Pitch 1.27 mm; Supplier 1: Digi-Key; Supplier Part Number 1: LT1207CS-ND; Type: CFA; Mounting Technology: Surface Mount; ComponentLink1Description: Manufacturer URL; ComponentLink1URL: http://www.linear.com/; ComponentLink2Description: Datasheet; ComponentLink2URL: http://cds.linear.com/docs/en/datasheet/lt1207.pdf; ComponentLink3Description: Package Specification; ComponentLink3URL: http://cds.linear.com/docs/en/packaging/S16%2005-08-1610%20Rev%20G.pdf
footprint LT-S-16_N (SOP, 16-Leads, Body 9.9x3.9mm, Pitch 1.27mm, IPC Medium Density)
footprint LT-S-16_L (SOP, 16-Leads, Body 9.9x3.9mm, Pitch 1.27mm, IPC High Density)
footprint LT-S-16_M (SOP, 16-Leads, Body 9.9x3.9mm, Pitch 1.27mm, IPC Low Density)
pins: 1 V+ (power), 2 -IN A (in), 3 +IN A (in), 4 SHDN A (in), 5 -IN B (in), 6 +IN B (in), 7 SHDN B (in), 8 V+ (power), 9 V+ (power), 10 COMP B, 11 V- B (power), 12 OUT B (out), 13 COMP A, 14 V- A (power), 15 OUT A (out), 16 V+ (power)

## LT1207CS#PBF
designator U?
Dual Channel, High Current, Programmable Supply Operational Amplifier, 66 MHz Typical GBW, 900 V/us Typical SR, 10 to 36 V, 16-Pin SOIC (S-16), Commercial, Pb-Free; Linear Technology Part Number: LT1207; Manufacturer: Linear Technology; PartNumber: LT1207CS#PBF; Channels (#): 2; GBW (MHz) Typical: 66; Is (mA) Typical: 20; SR (V/us) Typical: 900; Vos (mV) Typical: 3; Vs Max (V): 36; Vs Min (V): 10; PackageVersion: Rev G; PackageReference: LT-S-16; PackageDescription: 16-Lead Plastic Small Outline, Body 9.9 x 3.9 mm, Pitch 1.27 mm; Supplier 1: Digi-Key; Supplier Part Number 1: LT1207CS#PBF-ND; Supplier 2: Newark; Supplier Part Number 2: 57M2680; RoHS: Pb-Free; Type: CFA; Mounting Technology: Surface Mount; ComponentLink1Description: Manufacturer URL; ComponentLink1URL: http://www.linear.com/; ComponentLink2Description: Datasheet; ComponentLink2URL: http://cds.linear.com/docs/en/datasheet/lt1207.pdf; ComponentLink3Description: Package Specification; ComponentLink3URL: http://cds.linear.com/docs/en/packaging/S16%2005-08-1610%20Rev%20G.pdf
footprint LT-S-16_N (SOP, 16-Leads, Body 9.9x3.9mm, Pitch 1.27mm, IPC Medium Density)
footprint LT-S-16_L (SOP, 16-Leads, Body 9.9x3.9mm, Pitch 1.27mm, IPC High Density)
footprint LT-S-16_M (SOP, 16-Leads, Body 9.9x3.9mm, Pitch 1.27mm, IPC Low Density)
pins: 1 V+ (power), 2 -IN A (in), 3 +IN A (in), 4 SHDN A (in), 5 -IN B (in), 6 +IN B (in), 7 SHDN B (in), 8 V+ (power), 9 V+ (power), 10 COMP B, 11 V- B (power), 12 OUT B (out), 13 COMP A, 14 V- A (power), 15 OUT A (out), 16 V+ (power)

## LT1207CS#TR
designator U?
Dual Channel, High Current, Programmable Supply Operational Amplifier, 66 MHz Typical GBW, 900 V/us Typical SR, 10 to 36 V, 16-Pin SOIC (S-16), Commercial, Reel; Linear Technology Part Number: LT1207; Manufacturer: Linear Technology; PartNumber: LT1207CS#TR; Channels (#): 2; GBW (MHz) Typical: 66; Is (mA) Typical: 20; SR (V/us) Typical: 900; Vos (mV) Typical: 3; Vs Max (V): 36; Vs Min (V): 10; PackageVersion: Rev G; PackageReference: LT-S-16; PackageDescription: 16-Lead Plastic Small Outline, Body 9.9 x 3.9 mm, Pitch 1.27 mm; Supplier 1: Digi-Key; Supplier Part Number 1: LT1207CS#TR-ND; Packing: Reel; Type: CFA; Mounting Technology: Surface Mount; ComponentLink1Description: Manufacturer URL; ComponentLink1URL: http://www.linear.com/; ComponentLink2Description: Datasheet; ComponentLink2URL: http://cds.linear.com/docs/en/datasheet/lt1207.pdf; ComponentLink3Description: Package Specification; ComponentLink3URL: http://cds.linear.com/docs/en/packaging/S16%2005-08-1610%20Rev%20G.pdf
footprint LT-S-16_N (SOP, 16-Leads, Body 9.9x3.9mm, Pitch 1.27mm, IPC Medium Density)
footprint LT-S-16_L (SOP, 16-Leads, Body 9.9x3.9mm, Pitch 1.27mm, IPC High Density)
footprint LT-S-16_M (SOP, 16-Leads, Body 9.9x3.9mm, Pitch 1.27mm, IPC Low Density)
pins: 1 V+ (power), 2 -IN A (in), 3 +IN A (in), 4 SHDN A (in), 5 -IN B (in), 6 +IN B (in), 7 SHDN B (in), 8 V+ (power), 9 V+ (power), 10 COMP B, 11 V- B (power), 12 OUT B (out), 13 COMP A, 14 V- A (power), 15 OUT A (out), 16 V+ (power)

## LT1207CS#TRPBF
designator U?
Dual Channel, High Current, Programmable Supply Operational Amplifier, 66 MHz Typical GBW, 900 V/us Typical SR, 10 to 36 V, 16-Pin SOIC (S-16), Commercial, Pb-Free, Reel; Linear Technology Part Number: LT1207; Manufacturer: Linear Technology; PartNumber: LT1207CS#TRPBF; Channels (#): 2; GBW (MHz) Typical: 66; Is (mA) Typical: 20; SR (V/us) Typical: 900; Vos (mV) Typical: 3; Vs Max (V): 36; Vs Min (V): 10; PackageVersion: Rev G; PackageReference: LT-S-16; PackageDescription: 16-Lead Plastic Small Outline, Body 9.9 x 3.9 mm, Pitch 1.27 mm; Supplier 1: Digi-Key; Supplier Part Number 1: LT1207CS#TRPBF-ND; Packing: Reel; RoHS: Pb-Free; Type: CFA; Mounting Technology: Surface Mount; ComponentLink1Description: Manufacturer URL; ComponentLink1URL: http://www.linear.com/; ComponentLink2Description: Datasheet; ComponentLink2URL: http://cds.linear.com/docs/en/datasheet/lt1207.pdf; ComponentLink3Description: Package Specification; ComponentLink3URL: http://cds.linear.com/docs/en/packaging/S16%2005-08-1610%20Rev%20G.pdf
footprint LT-S-16_N (SOP, 16-Leads, Body 9.9x3.9mm, Pitch 1.27mm, IPC Medium Density)
footprint LT-S-16_L (SOP, 16-Leads, Body 9.9x3.9mm, Pitch 1.27mm, IPC High Density)
footprint LT-S-16_M (SOP, 16-Leads, Body 9.9x3.9mm, Pitch 1.27mm, IPC Low Density)
pins: 1 V+ (power), 2 -IN A (in), 3 +IN A (in), 4 SHDN A (in), 5 -IN B (in), 6 +IN B (in), 7 SHDN B (in), 8 V+ (power), 9 V+ (power), 10 COMP B, 11 V- B (power), 12 OUT B (out), 13 COMP A, 14 V- A (power), 15 OUT A (out), 16 V+ (power)

## LT1208CN8
designator U?
Dual Channel, Operational Amplifier, Fast C-load, 45 MHz Typical GBW, 400 V/us Typical SR, 8 to 36 V, 8-Pin DIP (N8-8), Commercial; Linear Technology Part Number: LT1208; Manufacturer: Linear Technology; PartNumber: LT1208CN8; Channels (#): 2; GBW (MHz) Typical: 45; Is (mA) Typical: 7; SR (V/us) Typical: 400; Vos (mV) Typical: 0.5; Vs Max (V): 36; Vs Min (V): 8; DatasheetVersion: Rev. 0; PackageVersion: Rev I; PackageReference: LT-N8-8; PackageDescription: 8-Lead PDIP, Body 10.16 x 6.48 mm, Pitch 2.54 mm; Supplier 1: Digi-Key; Supplier Part Number 1: LT1208CN8-ND; Type: VFB; Mounting Technology: Surface Mount; ComponentLink1Description: Manufacturer URL; ComponentLink1URL: http://www.linear.com/; ComponentLink2Description: Datasheet; ComponentLink2URL: http://cds.linear.com/docs/en/datasheet/lt1208.pdf; ComponentLink3Description: Package Specification; ComponentLink3URL: http://cds.linear.com/docs/en/packaging/05081510_I_N8.pdf
footprint LT-N8-8 (DIP, 8-Leads, Body 10.16x6.48mm, Pitch 2.54mm)
pins on every part: 4 V- (power), 8 V+ (power)
part A pins: 1 OUT A (out), 2 -IN A (in), 3 +IN A (in)
part B pins: 5 +IN B (in), 6 -IN B (in), 7 OUT B (out)

## LT1208CN8#PBF
designator U?
Dual Channel, Operational Amplifier, Fast C-load, 45 MHz Typical GBW, 400 V/us Typical SR, 8 to 36 V, 8-Pin DIP (N8-8), Commercial, Pb-Free; Linear Technology Part Number: LT1208; Manufacturer: Linear Technology; PartNumber: LT1208CN8#PBF; Channels (#): 2; GBW (MHz) Typical: 45; Is (mA) Typical: 7; SR (V/us) Typical: 400; Vos (mV) Typical: 0.5; Vs Max (V): 36; Vs Min (V): 8; DatasheetVersion: Rev. 0; PackageVersion: Rev I; PackageReference: LT-N8-8; PackageDescription: 8-Lead PDIP, Body 10.16 x 6.48 mm, Pitch 2.54 mm; Supplier 1: Digi-Key; Supplier Part Number 1: LT1208CN8#PBF-ND; Supplier 2: Newark; Supplier Part Number 2: 57M2684; RoHS: Pb-Free; Type: VFB; Mounting Technology: Through Hole; ComponentLink1Description: Manufacturer URL; ComponentLink1URL: http://www.linear.com/; ComponentLink2Description: Datasheet; ComponentLink2URL: http://cds.linear.com/docs/en/datasheet/lt1208.pdf; ComponentLink3Description: Package Specification; ComponentLink3URL: http://cds.linear.com/docs/en/packaging/05081510_I_N8.pdf
footprint LT-N8-8 (DIP, 8-Leads, Body 10.16x6.48mm, Pitch 2.54mm)
pins on every part: 4 V- (power), 8 V+ (power)
part A pins: 1 OUT A (out), 2 -IN A (in), 3 +IN A (in)
part B pins: 5 +IN B (in), 6 -IN B (in), 7 OUT B (out)

## LT1208CS8
designator U?
Dual Channel, Operational Amplifier, Fast C-load, 45 MHz Typical GBW, 400 V/us Typical SR, 8 to 36 V, 8-Pin SOIC (S8-8), Commercial; Linear Technology Part Number: LT1208; Manufacturer: Linear Technology; PartNumber: LT1208CS8; Channels (#): 2; GBW (MHz) Typical: 45; Is (mA) Typical: 7; SR (V/us) Typical: 400; Vos (mV) Typical: 0.5; Vs Max (V): 36; Vs Min (V): 8; DatasheetVersion: Rev. 0; PackageVersion: Rev G; PackageReference: LT-S8-8; PackageDescription: 8-Pin Plastic Small Outline, Body 4.9 x 3.9 mm, Pitch 1.27 mm; Supplier 1: Digi-Key; Supplier Part Number 1: LT1208CS8-ND; Type: VFB; Mounting Technology: Surface Mount; ComponentLink1Description: Manufacturer URL; ComponentLink1URL: http://www.linear.com/; ComponentLink2Description: Datasheet; ComponentLink2URL: http://cds.linear.com/docs/en/datasheet/lt1208.pdf; ComponentLink3Description: Package Specification; ComponentLink3URL: http://cds.linear.com/docs/en/packaging/05081610_G_SO8.pdf
footprint LT-S8-8_N (SOIC, 8-Leads, Body 4.9x3.9mm, Pitch 1.27mm, IPC Medium Density)
footprint LT-S8-8_L (SOIC, 8-Leads, Body 4.9x3.9mm, Pitch 1.27mm, IPC High Density)
footprint LT-S8-8_M (SOIC, 8-Leads, Body 4.9x3.9mm, Pitch 1.27mm, IPC Low Density)
pins on every part: 4 V- (power), 8 V+ (power)
part A pins: 1 OUT A (out), 2 -IN A (in), 3 +IN A (in)
part B pins: 5 +IN B (in), 6 -IN B (in), 7 OUT B (out)

## LT1208CS8#PBF
designator U?
Dual Channel, Operational Amplifier, Fast C-load, 45 MHz Typical GBW, 400 V/us Typical SR, 8 to 36 V, 8-Pin SOIC (S8-8), Commercial, Pb-Free; Linear Technology Part Number: LT1208; Manufacturer: Linear Technology; PartNumber: LT1208CS8#PBF; Channels (#): 2; GBW (MHz) Typical: 45; Is (mA) Typical: 7; SR (V/us) Typical: 400; Vos (mV) Typical: 0.5; Vs Max (V): 36; Vs Min (V): 8; DatasheetVersion: Rev. 0; PackageVersion: Rev G; PackageReference: LT-S8-8; PackageDescription: 8-Pin Plastic Small Outline, Body 4.9 x 3.9 mm, Pitch 1.27 mm; Supplier 1: Digi-Key; Supplier Part Number 1: LT1208CS8#PBF-ND; Supplier 2: Farnell; Supplier Part Number 2: 2238143; Supplier 3: Newark; Supplier Part Number 3: 57M2686; RoHS: Pb-Free; Type: VFB; Mounting Technology: Surface Mount; ComponentLink1Description: Manufacturer URL; ComponentLink1URL: http://www.linear.com/; ComponentLink2Description: Datasheet; ComponentLink2URL: http://cds.linear.com/docs/en/datasheet/lt1208.pdf; ComponentLink3Description: Package Specification; ComponentLink3URL: http://cds.linear.com/docs/en/packaging/05081610_G_SO8.pdf
footprint LT-S8-8_N (SOIC, 8-Leads, Body 4.9x3.9mm, Pitch 1.27mm, IPC Medium Density)
footprint LT-S8-8_L (SOIC, 8-Leads, Body 4.9x3.9mm, Pitch 1.27mm, IPC High Density)
footprint LT-S8-8_M (SOIC, 8-Leads, Body 4.9x3.9mm, Pitch 1.27mm, IPC Low Density)
pins on every part: 4 V- (power), 8 V+ (power)
part A pins: 1 OUT A (out), 2 -IN A (in), 3 +IN A (in)
part B pins: 5 +IN B (in), 6 -IN B (in), 7 OUT B (out)

## LT1208CS8#TR
designator U?
Dual Channel, Operational Amplifier, Fast C-load, 45 MHz Typical GBW, 400 V/us Typical SR, 8 to 36 V, 8-Pin SOIC (S8-8), Commercial, Reel; Linear Technology Part Number: LT1208; Manufacturer: Linear Technology; PartNumber: LT1208CS8#TR; Channels (#): 2; GBW (MHz) Typical: 45; Is (mA) Typical: 7; SR (V/us) Typical: 400; Vos (mV) Typical: 0.5; Vs Max (V): 36; Vs Min (V): 8; DatasheetVersion: Rev. 0; PackageVersion: Rev G; PackageReference: LT-S8-8; PackageDescription: 8-Pin Plastic Small Outline, Body 4.9 x 3.9 mm, Pitch 1.27 mm; Supplier 1: Digi-Key; Supplier Part Number 1: LT1208CS8#TR-ND; Packing: Reel; Type: VFB; Mounting Technology: Surface Mount; ComponentLink1Description: Manufacturer URL; ComponentLink1URL: http://www.linear.com/; ComponentLink2Description: Datasheet; ComponentLink2URL: http://cds.linear.com/docs/en/datasheet/lt1208.pdf; ComponentLink3Description: Package Specification; ComponentLink3URL: http://cds.linear.com/docs/en/packaging/05081610_G_SO8.pdf
footprint LT-S8-8_N (SOIC, 8-Leads, Body 4.9x3.9mm, Pitch 1.27mm, IPC Medium Density)
footprint LT-S8-8_L (SOIC, 8-Leads, Body 4.9x3.9mm, Pitch 1.27mm, IPC High Density)
footprint LT-S8-8_M (SOIC, 8-Leads, Body 4.9x3.9mm, Pitch 1.27mm, IPC Low Density)
pins on every part: 4 V- (power), 8 V+ (power)
part A pins: 1 OUT A (out), 2 -IN A (in), 3 +IN A (in)
part B pins: 5 +IN B (in), 6 -IN B (in), 7 OUT B (out)